# Altium schematic symbol library OPA2134UAE4.SchLib: 1 symbol
Pins are listed as number, name and electrical type; pins without a type are passive.

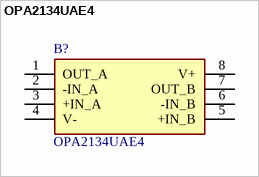
[diagram p0: symbol OPA2134UAE4]

## OPA2134UAE4
designator B?
TEXAS INSTRUMENTS - OPA2134UAE4. - Audio Power Amplifier, 2 Channel, +/- 2.5V to +/- 18V, SOIC, 8 Pins; Geometry.Height: 1.75mm; Mouser Part Number: 595-OPA2134UAE4; Mouser Price/Stock: https://www.mouser.co.uk/ProductDetail/Texas-Instruments/OPA2134UAE4?qs=7nS3%252BbEUL6uzphh9X3AzMA%3D%3D; Manufacturer_Name: Texas Instruments; Manufacturer_Part_Number: OPA2134UAE4; Datasheet Link: https://www.ti.com/lit/gpn/OPA2134
footprint SOIC127P600X175-8N
pins: 1 OUT_A, 2 -IN_A, 3 +IN_A, 4 V-, 5 +IN_B, 6 -IN_B, 7 OUT_B, 8 V+